# EAGLE library part SDM10M45SD (library BMSafeMasterIO)
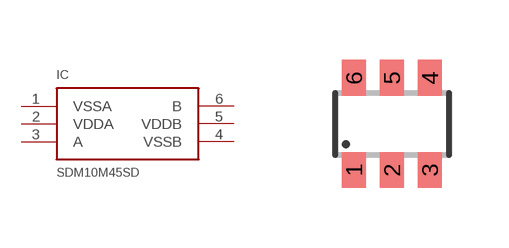
[diagram p0: symbol with the pads of SOT-26; footprint SOT-26]

Designator prefix IC

## SDM10M45SD  [SOT-26]
1  VSSA
2  VDDA
3  A
4  VSSB
5  VDDB
6  B

## Footprint SOT-26 (pad centres in mm)
smd 0.6 x 0.9: 1 -0.95,-1.15; 2 0,-1.15; 3 0.95,-1.15; 4 0.95,1.15; 5 0,1.15; 6 -0.95,1.15